# Altium schematic symbol library 74LCX07 (hex buffer).SchLib: 1 symbol
Pins are listed as number, name and electrical type; pins without a type are passive.

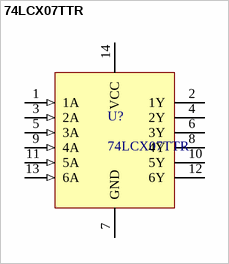
[diagram p0: symbol 74LCX07TTR]

## 74LCX07TTR
designator U?
STMICROELECTRONICS - 74LCX07TTR - IC, HEX BUFFER, SMD, TSSOP14; farnell: 1288488
footprint 74LCX07TTR (STMICROELECTRONICS - 74LCX07TTR - IC, HEX BUFFER, SMD, TSSOP14)
pins: 1 1A (in), 2 1Y (oc), 3 2A (in), 4 2Y (oc), 5 3A (in), 6 3Y (oc), 7 GND (power), 8 4Y (oc), 9 4A (in), 10 5Y (oc), 11 5A (in), 12 6Y (oc), 13 6A (in), 14 VCC (power)